# EAGLE library part DEMO_ONLY (library USB connector)
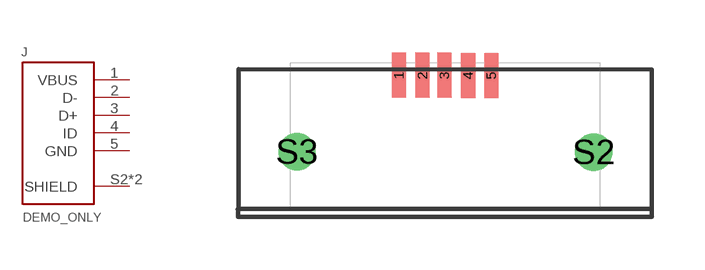
[diagram p11: symbol with the pads of DEMO_ONLY; footprint DEMO_ONLY]

Designator prefix J

## DEMO_ONLY  [DEMO_ONLY]
1  VBUS  pas
2  D-  pas
3  D+  pas
4  ID  pas
5  GND  pas
S2  SHIELD  pwr
S3  SHIELD  pwr

## Footprint DEMO_ONLY (pad centres in mm)
smd 0.4 x 1.27: 1 -1.18,2.39; 2 -0.51,2.39; 3 0.11,2.39; 4 0.78,2.38; 5 1.44,2.38
drill 0.55: S2 4.34,0.21; S3 -4.07,0.22